# Altium footprint library PCB - POWER INDUCTORS - SHOU HAN - CY75.PcbLib: 1 footprints
Each footprint in its own frame and in the unit in brackets; x right, y up, seen from the top. Pads: shape width x height; smd on the part's side, far side on the other; paste and mask are expansions set on the pad; w line width, h text height; cw(c..) or ccw(c..) is an arc to the next point about the centre after c.
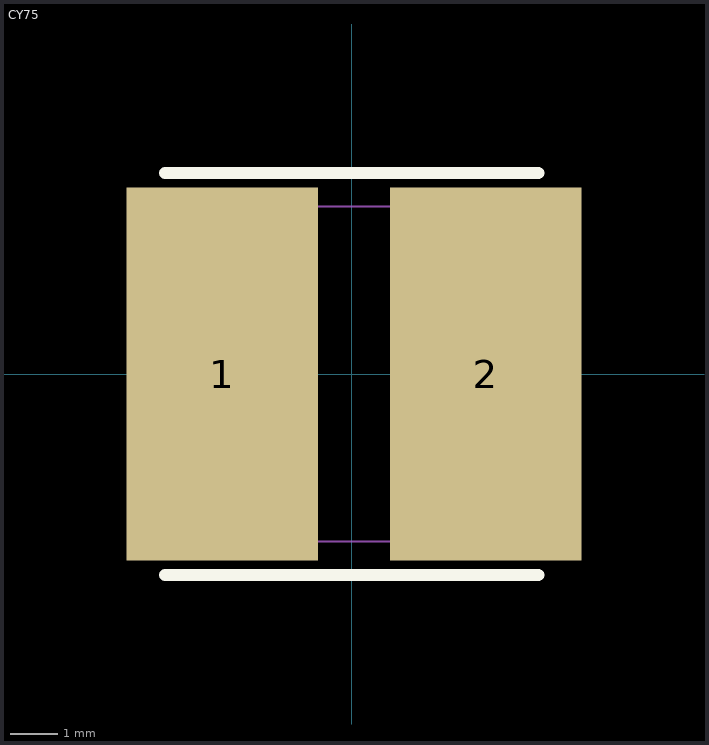
[diagram p0: the footprint, top view; thin cyan lines are the x and y axes]

## CY75 [mm]
pads (2):
  rect 4x7.8 smd paste+0 mask+0.051: 1(-2.699,0.009) 2(2.801,0.009)
Top Overlay:
  lines w0.254: -3.899,-4.191 3.901,-4.191 ; -3.899,4.209 3.901,4.209
Mechanical 13:
  region: -3.849,3.509 -0.999,3.509 -0.999,-3.491 -3.849,-3.491 -3.849,3.509
  region: 1.101,3.509 3.951,3.509 3.951,-3.491 1.101,-3.491 1.101,3.509
Mechanical 15:
  lines w0.051: -3.849,-3.491 -3.849,3.509 3.951,3.509 3.951,-3.491 -3.849,-3.491
Mechanical 29:
  region: -3.789,-3.491 -3.79,-3.467 -3.825,-3.433 -3.873,-3.433 -3.908,-3.467 -3.909,-3.491 -3.909,-3.515 -3.874,-3.549 -3.825,-3.549 -3.79,-3.515 -3.789,-3.491
  text "'.Designator'" at 0.254,0.762 h1.52
3D body "User Library-FPI0705 (7_8 x 7_0 x 5_0).STEP": height 5, standoff 0, extent -3.85,-3.5 3.95,3.5